# EAGLE library part 95278-101A06LF (library Connectors)
CONN HEADER SMD 6POS 2.54MM Manufacturer's datasheet <https://cdn.amphenol-icc.com/media/wysiwyg/files/drawing/95278.pdf>
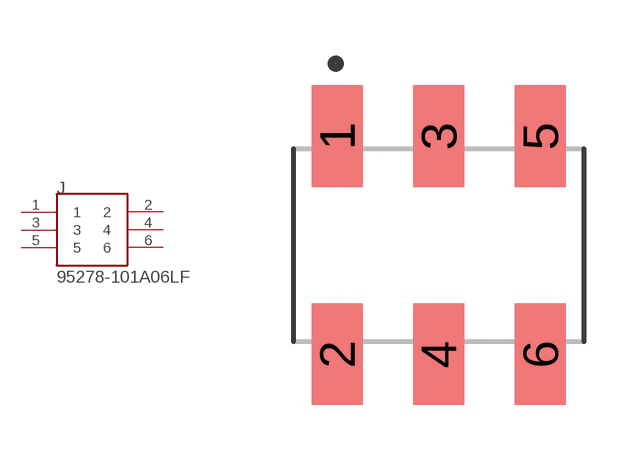
[diagram p2: symbol with the pads of 95278-101A06LF; footprint 95278-101A06LF]

Designator prefix J

## 95278-101A06LF (CREATED_BY: PCBLayout.com; DIGIKEY_PART_NUMBER: 609-3487-1-ND; MANUFACTURER: Amphenol ICC (FCI); MPN: 95278-101A06LF)  [95278-101A06LF]
1  1  pas
2  2  pas
3  3  pas
4  4  pas
5  5  pas
6  6  pas

## Footprint 95278-101A06LF (pad centres in mm)
smd 1.27 x 2.54: 1 -2.54,2.73; 2 -2.54,-2.73; 3 0,2.73; 4 0,-2.73; 5 2.54,2.73; 6 2.54,-2.73